# Altium footprint library RK73B1JTTD100J.PcbLib: 3 footprints
Each footprint in its own frame and in the unit in brackets; x right, y up, seen from the top. Pads: shape width x height; smd on the part's side, far side on the other; paste and mask are expansions set on the pad; w line width, h text height; cw(c..) or ccw(c..) is an arc to the next point about the centre after c.
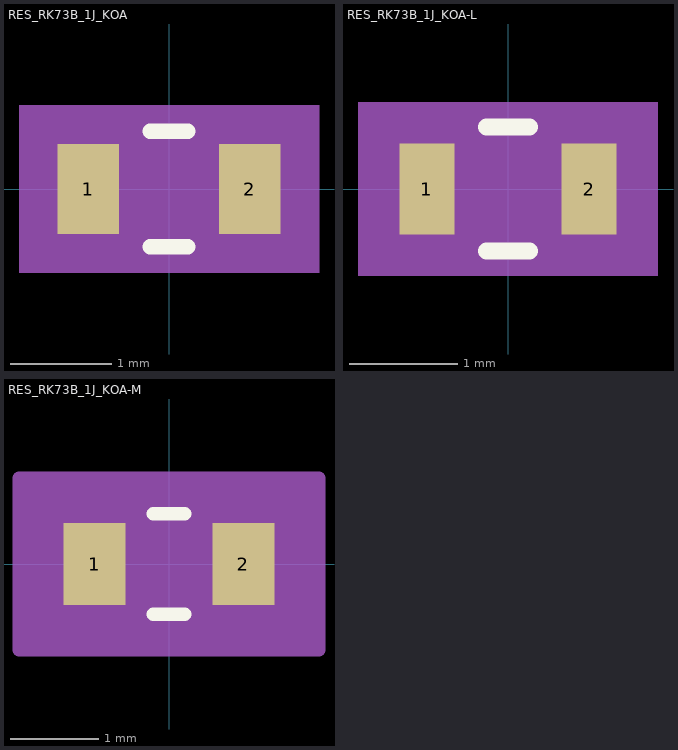
[diagram p0: the footprints below, top view; thin cyan lines are the x and y axes]

## RES_RK73B_1J_KOA [mil]
pads (2):
  rect 23.87x35 smd paste+0 mask+0: 1(-31.44,0) 2(31.44,0)
Top Overlay:
  lines w6: -7.39,-22.5 7.39,-22.5 ; -7.39,22.5 7.39,22.5
Mechanical 5:
  region: 58.37,-32.5 -58.37,-32.5 -58.37,32.5 58.37,32.5
Mechanical 13:
  lines w1: -35.5,-17.5 -35.5,17.5 ; -35.5,-17.5 -19.5,-17.5 -19.5,17.5 -35.5,17.5 ; -35.5,-17.5 35.5,-17.5 ; -35.5,-17.5 -35.5,17.5 ; -35.5,17.5 35.5,17.5 ; 35.5,-17.5 19.5,-17.5 19.5,17.5 35.5,17.5 ; 35.5,-17.5 35.5,17.5 ; 35.5,-17.5 35.5,17.5
Mechanical 15:
  region: 53.37,-27.5 -53.37,-27.5 -53.37,27.5 53.37,27.5
  lines w6: -53.37,-27.5 -53.37,27.5 53.37,27.5 53.37,-27.5 -53.37,-27.5
3D body "RES_RK73B_1J_KOA.step": height 22.01, standoff 0, extent -35.51,-17.48 35.51,17.48

## RES_RK73B_1J_KOA-L [mil]
pads (2):
  rect 19.94x33.03 smd paste+0 mask+0: 1(-29.47,0) 2(29.47,0)
Top Overlay:
  lines w6: -7.85,-22.5 7.85,-22.5 ; -7.85,22.5 7.85,22.5
Mechanical 5:
  region: 54.44,-31.52 -54.44,-31.52 -54.44,31.52 54.44,31.52
Mechanical 13:
  lines w1: -35.5,-17.5 -35.5,17.5 ; -35.5,-17.5 -19.5,-17.5 -19.5,17.5 -35.5,17.5 ; -35.5,-17.5 35.5,-17.5 ; -35.5,-17.5 -35.5,17.5 ; -35.5,17.5 35.5,17.5 ; 35.5,-17.5 19.5,-17.5 19.5,17.5 35.5,17.5 ; 35.5,-17.5 35.5,17.5 ; 35.5,-17.5 35.5,17.5
Mechanical 15:
  region: 43.44,-20.52 -43.44,-20.52 -43.44,20.52 43.44,20.52
  lines w6: -43.44,-20.52 -43.44,20.52 43.44,20.52 43.44,-20.52 -43.44,-20.52
3D body "RES_RK73B_1J_KOA.step": height 22.01, standoff 0, extent -35.51,-17.48 35.51,17.48

## RES_RK73B_1J_KOA-M [mil]
pads (2):
  rect 27.81x36.97 smd paste+0 mask+0: 1(-33.41,0) 2(33.41,0)
Top Overlay:
  lines w6: -7.03,-22.5 7.03,-22.5 ; -7.03,22.5 7.03,22.5
Mechanical 5:
  region: 62.31,-33.48 -62.31,-33.48 -62.31,33.48 62.31,33.48
Mechanical 13:
  lines w1: -35.5,-17.5 -35.5,17.5 ; -35.5,-17.5 -19.5,-17.5 -19.5,17.5 -35.5,17.5 ; -35.5,-17.5 35.5,-17.5 ; -35.5,-17.5 -35.5,17.5 ; -35.5,17.5 35.5,17.5 ; 35.5,-17.5 19.5,-17.5 19.5,17.5 35.5,17.5 ; 35.5,-17.5 35.5,17.5 ; 35.5,-17.5 35.5,17.5
Mechanical 15:
  region: 67.31,-38.48 -67.31,-38.48 -67.31,38.48 67.31,38.48
  lines w6: -67.31,-38.48 -67.31,38.48 67.31,38.48 67.31,-38.48 -67.31,-38.48
3D body "RES_RK73B_1J_KOA.step": height 22.01, standoff 0, extent -35.51,-17.48 35.51,17.48